# Altium schematic symbol library CPH6123.Schlib: 1 symbol
Pins are listed as number, name and electrical type; pins without a type are passive.

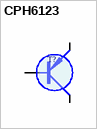
[diagram p0: symbol CPH6123]

## CPH6123
designator T?
SOT23     50V 3A 390MHz 24p(10V) (CPH6223)
pins: 1 C (oe), 2 C (oe), 3 B, 4 E (oc), 5 C (oe), 6 C (oe)
1 alternate drawing of the same symbol